# EAGLE library part 08B1-1X1T-06-F (library con-RJ45)
RJ45 MAG JACK 100 BASE-T
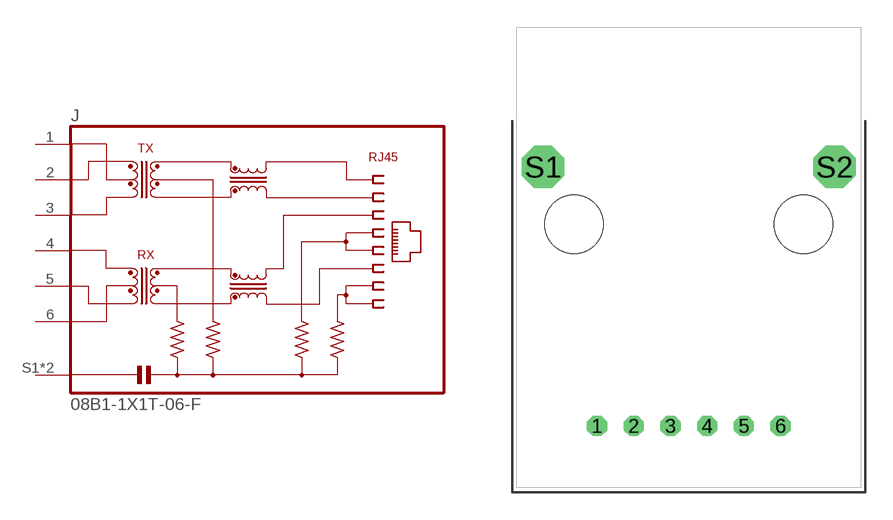
[diagram p3: symbol with the pads of 08B1-1X1T-06-F; footprint 08B1-1X1T-06-F]

Designator prefix J

## 08B1-1X1T-06-F  [08B1-1X1T-06-F]
1  1  pas
2  2  pas
3  3  pas
4  4  pas
5  5  pas
6  6  pas
S1  S  pas
S2  S  pas

## Footprint 08B1-1X1T-06-F (pad centres in mm)
RJ45 MAG JAG Bel Fuse
drill 0.61 octagon: 1 -5.08,-11.176; 2 -3.048,-11.176; 3 -1.016,-11.176; 4 1.016,-11.176; 5 3.048,-11.176; 6 5.08,-11.176
drill 1.575 octagon: S1 -8.065,3.175; S2 8.065,3.175
hole 3.251 at -6.35,0
hole 3.251 at 6.35,0